# EAGLE library part TBD62783AFG,EL (library TBD62783AFG_EL)
Gate Drivers DMOS Transistor Array8-CH, 50V/0.5A Source: Datasheet
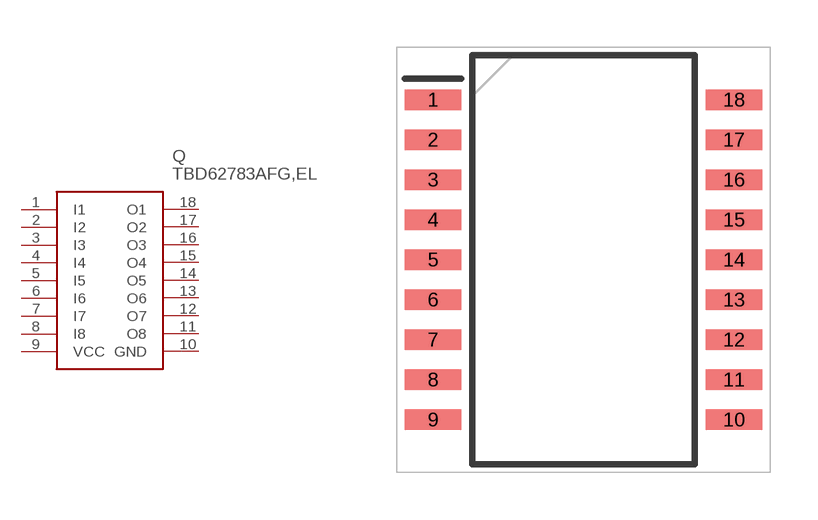
[diagram p0: symbol with the pads of SOIC127P1030X245-18N; footprint SOIC127P1030X245-18N]

Designator prefix Q

## TBD62783AFG,EL (Description: Gate Drivers DMOS Transistor Array8-CH, 50V/0.5A; Height: 2.45mm; Manufacturer_Name: Toshiba; Manufacturer_Part_Number: TBD62783AFG,EL; Mouser_Part_Number: 757-TBD62783AFGEL; Mouser_Price-Stock: https://www.mouser.co.uk/ProductDetail/Toshiba/TBD62783AFGEL?qs=fSnNYG2PaKJyPGRf9HI0JA%3D%3D)  [SOIC127P1030X245-18N]
1  I1  in
2  I2  in
3  I3  in
4  I4  in
5  I5  in
6  I6  in
7  I7  in
8  I8  in
9  VCC  pwr
10  GND  pwr
11  O8  out
12  O7  out
13  O6  out
14  O5  out
15  O4  out
16  O3  out
17  O2  out
18  O1  out

## Footprint SOIC127P1030X245-18N (pad centres in mm)
SOP18-P-3.75-1.27
smd 1.8 x 0.65: 1 -4.775,5.08; 2 -4.775,3.81; 3 -4.775,2.54; 4 -4.775,1.27; 5 -4.775,0; 6 -4.775,-1.27; 7 -4.775,-2.54; 8 -4.775,-3.81; 9 -4.775,-5.08; 10 4.775,-5.08; 11 4.775,-3.81; 12 4.775,-2.54; 13 4.775,-1.27; 14 4.775,0; 15 4.775,1.27; 16 4.775,2.54; 17 4.775,3.81; 18 4.775,5.08